# EAGLE library part NC7WZ14 (library fairchild-semiconductor)
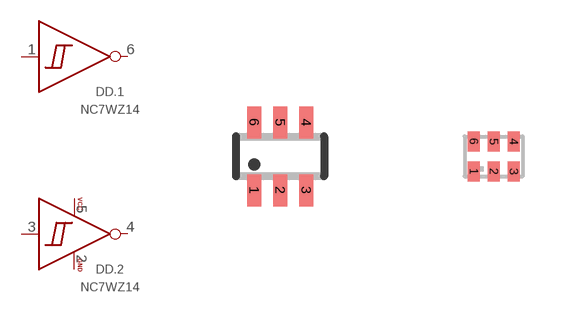
[diagram p2: symbol with the pads of SC70-6L; footprints SC70-6L, MICROPAK-6LEAD]

Designator prefix DD; gates .1=SCHMITT_TRIGGER_INV .2=SCHMITT_TRIGGER_INV G$3=LOGIC_PWR

## NC7WZ14P6X  [SC70-6L]
1  .1:IN  in
2  G$3:GND
3  .2:IN  in
4  .2:OUT  out
5  G$3:VCC  pwr
6  .1:OUT  out

## NC7WZ14EP6X  [SC70-6L]
Pads as for SC70-6L

## NC7WZ14L6X  [MICROPAK-6LEAD]
Pads as for SC70-6L

## Footprint SC70-6L (pad centres in mm)
SC-70 Package
smd 0.35 x 0.8: 1 -0.65,-0.85; 2 0,-0.85; 3 0.65,-0.85; 4 0.65,0.85; 5 0,0.85; 6 -0.65,0.85

## Footprint MICROPAK-6LEAD (pad centres in mm)
smd 0.3 x 0.5: 1 -0.5,-0.375; 2 0,-0.375; 3 0.5,-0.375; 4 0.5,0.375; 5 0,0.375; 6 -0.5,0.375